# Altium schematic symbol library SCH - AMP AUDIO - ANALOG SSM4321ACBZ-R7.SchLib: 1 symbol
Pins are listed as number, name and electrical type; pins without a type are passive.

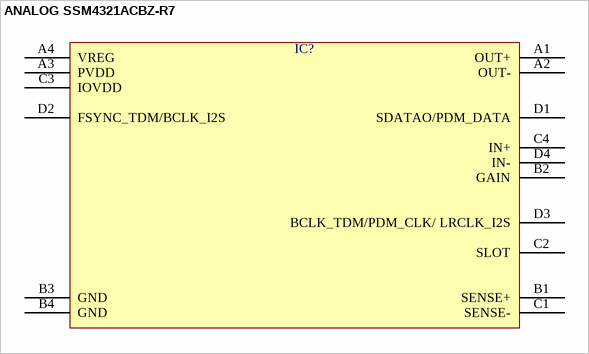
[diagram p0: symbol ANALOG SSM4321ACBZ-R7]

## ANALOG SSM4321ACBZ-R7
designator IC?  (value not drawn)
pins: A1 OUT+, A2 OUT-, A3 PVDD, A4 VREG, B1 SENSE+, B2 GAIN, B3 GND, B4 GND, C1 SENSE-, C2 SLOT, C3 IOVDD, C4 IN+, D1 SDATAO/PDM_DATA, D2 FSYNC_TDM/BCLK_I2S, D3 BCLK_TDM/PDM_CLK/ LRCLK_I2S, D4 IN-